# EAGLE library part IC_MTI85W100GC (library Main)
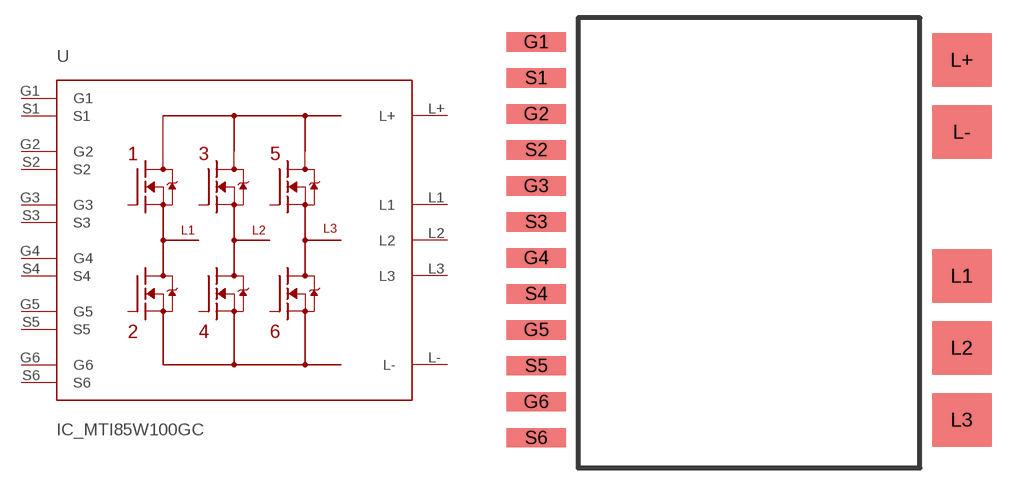
[diagram p2: symbol with the pads of IC_ISOPLUS-DIL; footprint IC_ISOPLUS-DIL]

Designator prefix U

## IC_MTI85W100GC  [IC_ISOPLUS-DIL]
G1  G1  in
G2  G2  in
G3  G3  in
G4  G4  in
G5  G5  in
G6  G6  in
L1  L1  out
L2  L2  out
L3  L3  out
L+  L+  pwr
L-  L-  pwr
S1  S1  in
S2  S2  in
S3  S3  in
S4  S4  in
S5  S5  in
S6  S6  in

## Footprint IC_ISOPLUS-DIL (pad centres in mm)
smd 5 x 1.6: G1 0,33; G2 0,27; G3 0,21; G4 0,15; G5 0,9; G6 0,3; S1 0,30; S2 0,24; S3 0,18; S4 0,12; S5 0,6; S6 0,0
smd 5 x 4.5: L1 35.5,13.5; L2 35.5,7.5; L3 35.5,1.5; L+ 35.5,31.5; L- 35.5,25.5